# Altium footprint library MyParts.PcbLib: 12 footprints
Each footprint in its own frame and in the unit in brackets; x right, y up, seen from the top. Pads: shape width x height; smd on the part's side, far side on the other; paste and mask are expansions set on the pad; w line width, h text height; cw(c..) or ccw(c..) is an arc to the next point about the centre after c.
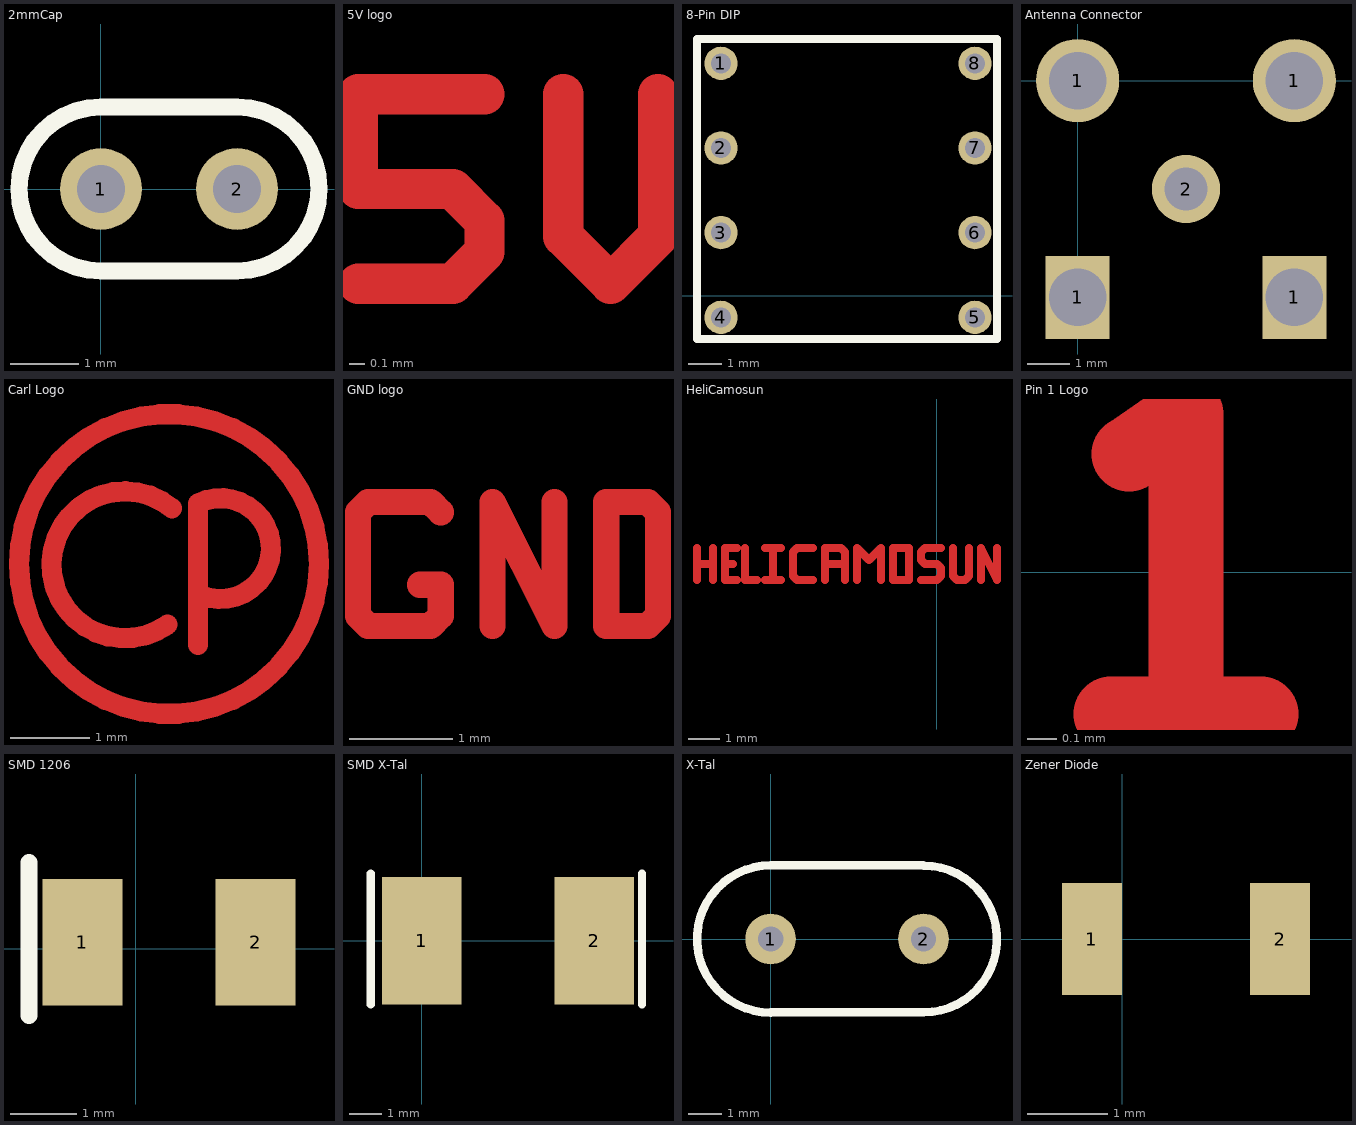
[diagram p0: the footprints below, top view; thin cyan lines are the x and y axes]

## 2mmCap [mm] "2mm Cap (Thru hole)"
height 3.56
pads (2):
  round 1.2 hole 0.7: 1(0,0) 2(2,0)
Top Overlay:
  lines w0.254: 0,-1.204 cw(c0,0) 0,1.204 2,1.204 cw(c2,0) 2,-1.204 0,-1.204

## 5V logo [mm]
height 0.1
Top Layer:
  lines w0.254: -3.7,1.6 -3.1,1.6 -2.9,1.8 -2.9,2 -3.1,2.2 -3.7,2.2 -3.7,2.6 -3.7,2.8 -2.9,2.8 ; -2.4,2.8 -2.4,1.9 -2.1,1.6 ; -1.8,2.8 -1.8,1.9 -2.1,1.6 ; -2.1,1.6 -2.1,1.6

## 8-Pin DIP [mm] "8-Pin DIP"
height 4
pads (8):
  round 1 hole 0.599: 1(1.52,6.971) 2(1.52,4.431) 3(1.52,1.891) 4(1.52,-0.649) 5(9.14,-0.649) 6(9.14,1.891) 7(9.14,4.431) 8(9.14,6.971)
Top Overlay:
  lines w0.254: 0.8,-1.3 9.8,-1.3 9.8,7.7 0.8,7.7 0.8,-1.3

## Antenna Connector [mm] "Antenna Connector"
height 9.55
pads (5):
  rect 1.5x1.95 hole 1.35: 1(0,-5.08) 1(5.08,-5.08)
  round 1.95 hole 1.35: 1(0,0) 1(5.08,0)
  round 1.6 hole 1: 2(2.54,-2.54)

## Carl Logo [mm] "My personal Logo"
height 0.1
Top Layer:
  circle w0.254: c7.002,-7.112 r1.888
  lines w0.254: 6.985,-7.874 cw(c6.448,-7.122) 7.039,-6.411 ; 7.366,-8.128 7.366,-6.35 cw(c7.65,-6.918) 7.412,-7.507

## GND logo [mm]
height 0.1
Top Layer:
  lines w0.254: -4.5,3.4 -4.3,3.4 -4.3,3.1 -4.4,3 -5,3 -5.1,3.1 -5.1,4.1 -5,4.2 -4.4,4.2 -4.3,4.1 ; -3.8,3 -3.8,4.2 -3.2,3 -3.2,4.2 ; -2.7,3 -2.3,3 -2.2,3.1 -2.2,4.1 -2.3,4.2 -2.7,4.2 -2.7,3

## HeliCamosun [mm] "HeliCamosun Logo"
height 1
Top Layer:
  lines w0.254: -7.62,7.62 -7.62,8.636 ; -7.62,8.128 -7.239,8.128 ; -7.112,7.62 -7.112,8.636 ; -6.731,8.128 -6.477,8.128 ; -6.35,7.62 -6.731,7.62 -6.731,8.636 -6.35,8.636 ; -6.096,8.636 -6.096,7.62 -5.715,7.62 ; -5.461,7.62 -4.953,7.62 ; -5.461,8.636 -4.953,8.636 ; -5.207,7.62 -5.207,8.636 ; -3.937,7.62 -4.445,7.62 -4.572,7.747 -4.572,8.509 -4.445,8.636 -3.937,8.636 ; -3.556,7.62 -3.556,8.636 -3.048,8.636 -2.921,8.509 -2.921,7.62 ; -3.556,8.128 -2.921,8.128 ; -2.54,7.62 -2.54,8.636 -2.159,8.255 -1.778,8.636 -1.778,7.62 ; -0.508,7.62 0,7.62 0.127,7.747 0.127,8.001 0,8.128 -0.381,8.128 -0.508,8.255 -0.508,8.509 -0.381,8.636 0.127,8.636 ; 0.508,8.636 0.508,7.747 0.635,7.62 0.889,7.62 1.016,7.747 1.016,8.636 ; 1.397,7.62 1.397,8.636 1.905,7.62 1.905,8.636 ; -1.397,7.62 -0.889,7.62 -0.889,8.636 -1.397,8.636 -1.397,7.62

## Pin 1 Logo [mm] "Pin 1 Logo"
height 0.1
Top Layer:
  lines w0.254: -0.261,-0.48 0.247,-0.48 ; -0.2,0.4 -0.007,0.536 -0.007,-0.48

## SMD 1206 [mm] "SMD 1206"
height 0.77
pads (2):
  rect 1.2x1.9 smd: 1(-0.8,0.1) 2(1.8,0.1)
Top Overlay:
  lines w0.254: -1.6,-1 -1.6,1.3

## SMD X-Tal [mm] "SMD X-Tal"
height 1.5
pads (2):
  rect 2.5x4 smd: 1(0,0) 2(5.4,0)
Top Overlay:
  lines w0.254: -1.6,-2 -1.6,2.1 ; 6.9,-2 6.9,2.1

## X-Tal [mil] "X-Tal"
height 137.8
pads (2):
  round 60 hole 30: 1(0,0) 2(181.1,0)
Top Overlay:
  lines w10: 0,-87.15 cw(c0,0) 0,87.15 180.92,87.15 ; 0.18,-86.97 181.1,-86.97 ccw(c181.1,0) 181.1,86.97

## Zener Diode [mm] "CZRF52C3"
height 2
pads (2):
  rect 0.75x1.4 smd: 1(-0.375,0) 2(1.975,0)